# Altium footprint library RaspComputeModule_4_IO.PcbLib: 40 footprints (part 3 of 3)
Each footprint in its own frame and in the unit in brackets; x right, y up, seen from the top. Pads: shape width x height; smd on the part's side, far side on the other; paste and mask are expansions set on the pad; w line width, h text height; cw(c..) or ccw(c..) is an arc to the next point about the centre after c.
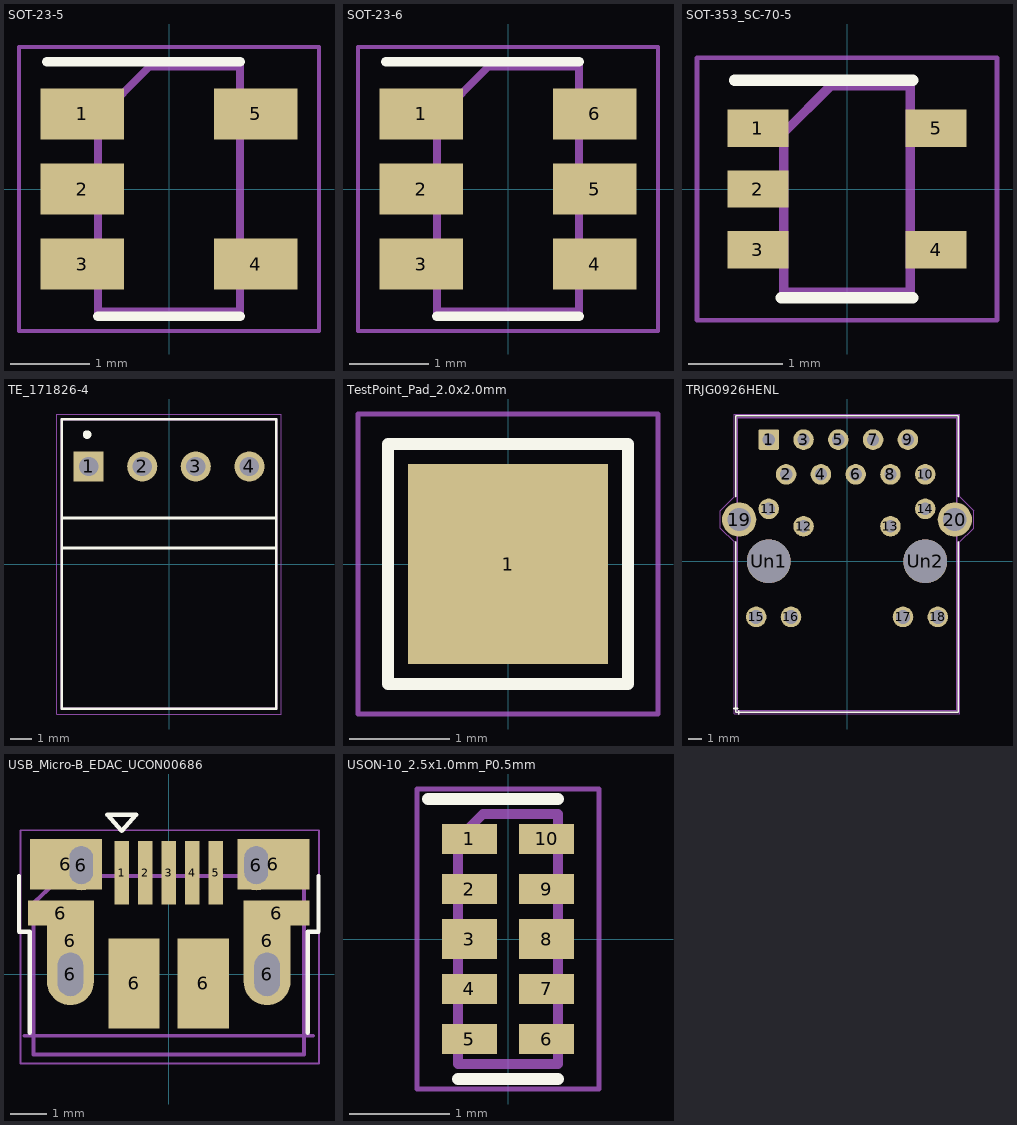
[diagram p2: the footprints below, top view; thin cyan lines are the x and y axes]

## SOT-23-5 [mm]
pads (5):
  rect 1.06x0.65 smd mask+0: 1(-1.1,0.95) 2(-1.1,0) 3(-1.1,-0.95) 4(1.1,-0.95) 5(1.1,0.95)
Top Overlay:
  lines w0.12: -1.55,1.61 0.9,1.61 ; -0.9,-1.61 0.9,-1.61
Mechanical 4:
  lines w0.05: -1.9,-1.8 1.9,-1.8 1.9,1.8 -1.9,1.8 -1.9,-1.8
Mechanical 6:
  lines w0.1: -0.9,-1.55 -0.9,0.9 -0.25,1.55 0.9,1.55 0.9,-1.55 -0.9,-1.55
  text "${REFERENCE}" at -0.456,2.386 h0.5

## SOT-23-6 [mm]
pads (6):
  rect 1.06x0.65 smd mask+0: 1(-1.1,0.95) 2(-1.1,0) 3(-1.1,-0.95) 4(1.1,-0.95) 5(1.1,0) 6(1.1,0.95)
Top Overlay:
  lines w0.12: -1.55,1.61 0.9,1.61 ; -0.9,-1.61 0.9,-1.61
Mechanical 4:
  lines w0.05: -1.9,-1.8 -1.9,1.8 1.9,1.8 1.9,-1.8 -1.9,-1.8
Mechanical 6:
  lines w0.1: -0.9,-1.55 0.9,-1.55 0.9,1.55 -0.25,1.55 -0.9,0.9 -0.9,-1.55
  text "${REFERENCE}" at 0.456,-2.386 h0.5

## SOT-353_SC-70-5 [mm]
pads (5):
  rect 0.65x0.4 smd mask+0: 1(-0.95,0.65) 2(-0.95,0) 3(-0.95,-0.65) 4(0.95,-0.65) 5(0.95,0.65)
Top Overlay:
  lines w0.12: -1.2,1.16 0.7,1.16 ; -0.7,-1.16 0.7,-1.16
Mechanical 4:
  lines w0.05: -1.6,-1.4 -1.6,1.4 1.6,1.4 1.6,-1.4 -1.6,-1.4
Mechanical 6:
  lines w0.1: -0.675,-1.1 0.675,-1.1 0.675,1.1 -0.175,1.1 -0.675,0.6 -0.675,-1.1
  text "${REFERENCE}" at 0.456,-2.386 h0.5

## TE_171826-4 [mm]
pads (4):
  rect 1.408x1.408 hole 0.9 paste-1.408: 1(-3.75,4.55)
  round 1.408 hole 0.9 paste-1.408: 2(-1.25,4.55) 3(1.25,4.55) 4(3.75,4.55)
Top Overlay:
  circle w0.2: c-3.82,6.04 r0.1
  lines w0.127: -5,0.75 -5,-6.75 5,-6.75 5,0.75 ; -5,0.75 5,0.75 ; -5,0.75 -5,2.15 ; -5,2.15 -5,6.75 5,6.75 5,2.15 ; -5,2.15 5,2.15 ; 5,0.75 5,2.15
Mechanical 8:
  lines w0.05: -5.25,-7 5.25,-7 5.25,7 -5.25,7 -5.25,-7
Mechanical 9:
  lines w0.127: -5,-6.75 5,-6.75 5,6.75 -5,6.75 -5,-6.75

## TestPoint_Pad_2.0x2.0mm [mm]
pads (1):
  rect 2x2 smd paste-2 mask+0: 1(0,0)
Top Overlay:
  lines w0.12: -1.2,-1.2 -1.2,1.2 1.2,1.2 1.2,-1.2 -1.2,-1.2
Mechanical 3:
  lines w0.05: -1.5,-1.5 -1.5,1.5 1.5,1.5 1.5,-1.5 -1.5,-1.5
Mechanical 5:
  text "${REFERENCE}" at -4.773,-2.912 h1

## TRJG0926HENL [mm]
pads (22):
  rrect17% 1.5x1.5 hole 0.9 paste-1.5: 1(-5.715,8.89)
  round 1.5 hole 0.9 paste-1.5: 2(-4.445,6.35) 3(-3.175,8.89) 4(-1.905,6.35) 5(-0.635,8.89) 6(0.635,6.35) 7(1.905,8.89) 8(3.175,6.35) 9(4.445,8.89) 10(5.715,6.35) 11(-5.715,3.83) 12(-3.175,2.56) 13(3.175,2.56) 14(5.715,3.83)
  round 1.5 hole 1.02 paste-1.5: 15(-6.63,-4.06) 16(-4.09,-4.06) 17(4.09,-4.06) 18(6.63,-4.06)
  round 2.5 hole 1.7 paste-2.5: 19(-7.875,3.05) 20(7.875,3.05)
  round 3.2 hole 3.2 paste-3.2: Un1(-5.715,0) Un2(5.715,0)
Top Overlay:
  lines w0.12: -8.25,-10.75 -8,-10.75 ; -8.12,1.43 -8.12,-11.02 8.12,-11.02 8.12,1.43 ; -8.12,4.71 -8.12,10.62 8.12,10.62 8.12,4.71 ; -7.9,-11.15 -7.9,-10.9
Mechanical 4:
  lines w0.05: -8.25,10.75 8.25,10.75 8.25,4.71 9.25,3.71 9.25,2.43 8.25,1.43 8.25,-11.15 -8.25,-11.15 -8.25,1.43 -9.25,2.43 -9.25,3.71 -8.25,4.71 -8.25,10.76
Mechanical 6:
  lines w0.1: -8,0 -8,10.5 8,10.5 8,-10.9 -8,-10.9 -8,5.37
  text "${REFERENCE}" at -4.773,-0.912 h1

## USB_Micro-B_EDAC_UCON00686 [mm]
pads (17):
  rect 0.4x1.75 smd mask+0: 1(-1.3,2.82) 2(-0.65,2.82) 3(0,2.82) 4(0.65,2.82) 5(1.3,2.82)
  rect 1.825x0.7 smd mask+0: 6(-2.987,1.7) 6(2.987,1.7)
  rect 2x1.4 smd mask+0: 6(-2.85,3.06) 6(2.9,3.06)
  rrect100% 1.3x1.7 hole 0.7 slot 1.2 at 90 deg paste-1.7: 6(-2.725,0) 6(2.725,0)
  rect 1.3x2 smd mask+0: 6(-2.725,0.93) 6(2.725,0.93)
  rrect100% 1x1.4 hole 0.65 slot 1.05 at 90 deg paste-1.4: 6(-2.425,3.03) 6(2.425,3.03)
  rect 1.425x2.5 smd mask+0: 6(-0.962,-0.25) 6(0.962,-0.25)
Top Overlay:
  lines w0.12: -4.15,2.73 -4.15,1.18 -3.85,1.18 -3.85,-1.62 ; 3.85,-1.62 3.85,1.18 4.15,1.18 4.15,2.73 ; -1.7,4.43 -1.3,3.98 -0.9,4.43 -1.7,4.43
Mechanical 2:
  lines w0.1: -4,-1.7 4,-1.7
  text "PCB Edge" at -1.359,-2.977 h0.4
  text "PCB edge" at -1.723,-1.528 h0.5
Mechanical 4:
  lines w0.05: -4.105,-2.465 4.165,-2.465 4.165,3.995 -4.105,3.995 -4.105,-2.465
Mechanical 6:
  lines w0.12: -3.75,-2.22 3.75,-2.22 3.75,2.73 -2.95,2.73 -3.75,1.98 -3.75,-2.22
  text "${REFERENCE}" at -4.773,-2.112 h1

## USON-10_2.5x1.0mm_P0.5mm [mm]
pads (10):
  rect 0.55x0.3 smd mask+0: 1(-0.385,1) 2(-0.385,0.5) 4(-0.385,-0.5) 5(-0.385,-1) 6(0.385,-1) 7(0.385,-0.5) 9(0.385,0.5) 10(0.385,1)
  rect 0.55x0.4 smd mask+0: 3(-0.385,0) 8(0.385,0)
Top Overlay:
  lines w0.12: -0.8,1.4 0.5,1.4 ; -0.5,-1.4 0.5,-1.4
Mechanical 4:
  lines w0.05: -0.91,-1.5 -0.91,1.5 0.91,1.5 0.91,-1.5 -0.91,-1.5
Mechanical 6:
  lines w0.1: -0.5,-1.25 0.5,-1.25 0.5,1.25 -0.25,1.25 -0.5,1 -0.5,-1.25
  text "${REFERENCE}" at 0.519,-2.643 h0.55